# EAGLE library part OPA2337 (library 1_spektrak)
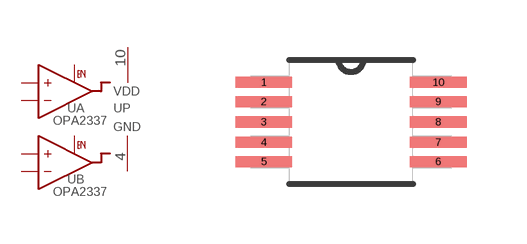
[diagram p25: symbol with the pads of MSOP10; footprint MSOP10]

Designator prefix U; gates A=OPAMP B=OPAMP P=PWRGND

## OPA2337  [MSOP10]
1  A:OUT  out
2  A:IN-  in
3  A:IN+  in
4  P:GND  pwr
5  A:EN  in
6  B:EN  in
7  B:IN+  in
8  B:IN-  in
9  B:OUT  out
10  P:VDD  pwr

## Footprint MSOP10 (pad centres in mm)
smd 1.422 x 0.279: 1 -2.184,0.991; 2 -2.184,0.508; 3 -2.184,0; 4 -2.184,-0.508; 5 -2.184,-0.991; 6 2.184,-0.991; 7 2.184,-0.508; 8 2.184,0; 9 2.184,0.508; 10 2.184,0.991